# Altium footprint library 野火_EBF6ULL S1 Mini 底板_V1.0_PCB封装_AD格式.PcbLib: 29 footprints (part 1 of 2)
Each footprint in its own frame and in the unit in brackets; x right, y up, seen from the top. Pads: shape width x height; smd on the part's side, far side on the other; paste and mask are expansions set on the pad; w line width, h text height; cw(c..) or ccw(c..) is an arc to the next point about the centre after c.
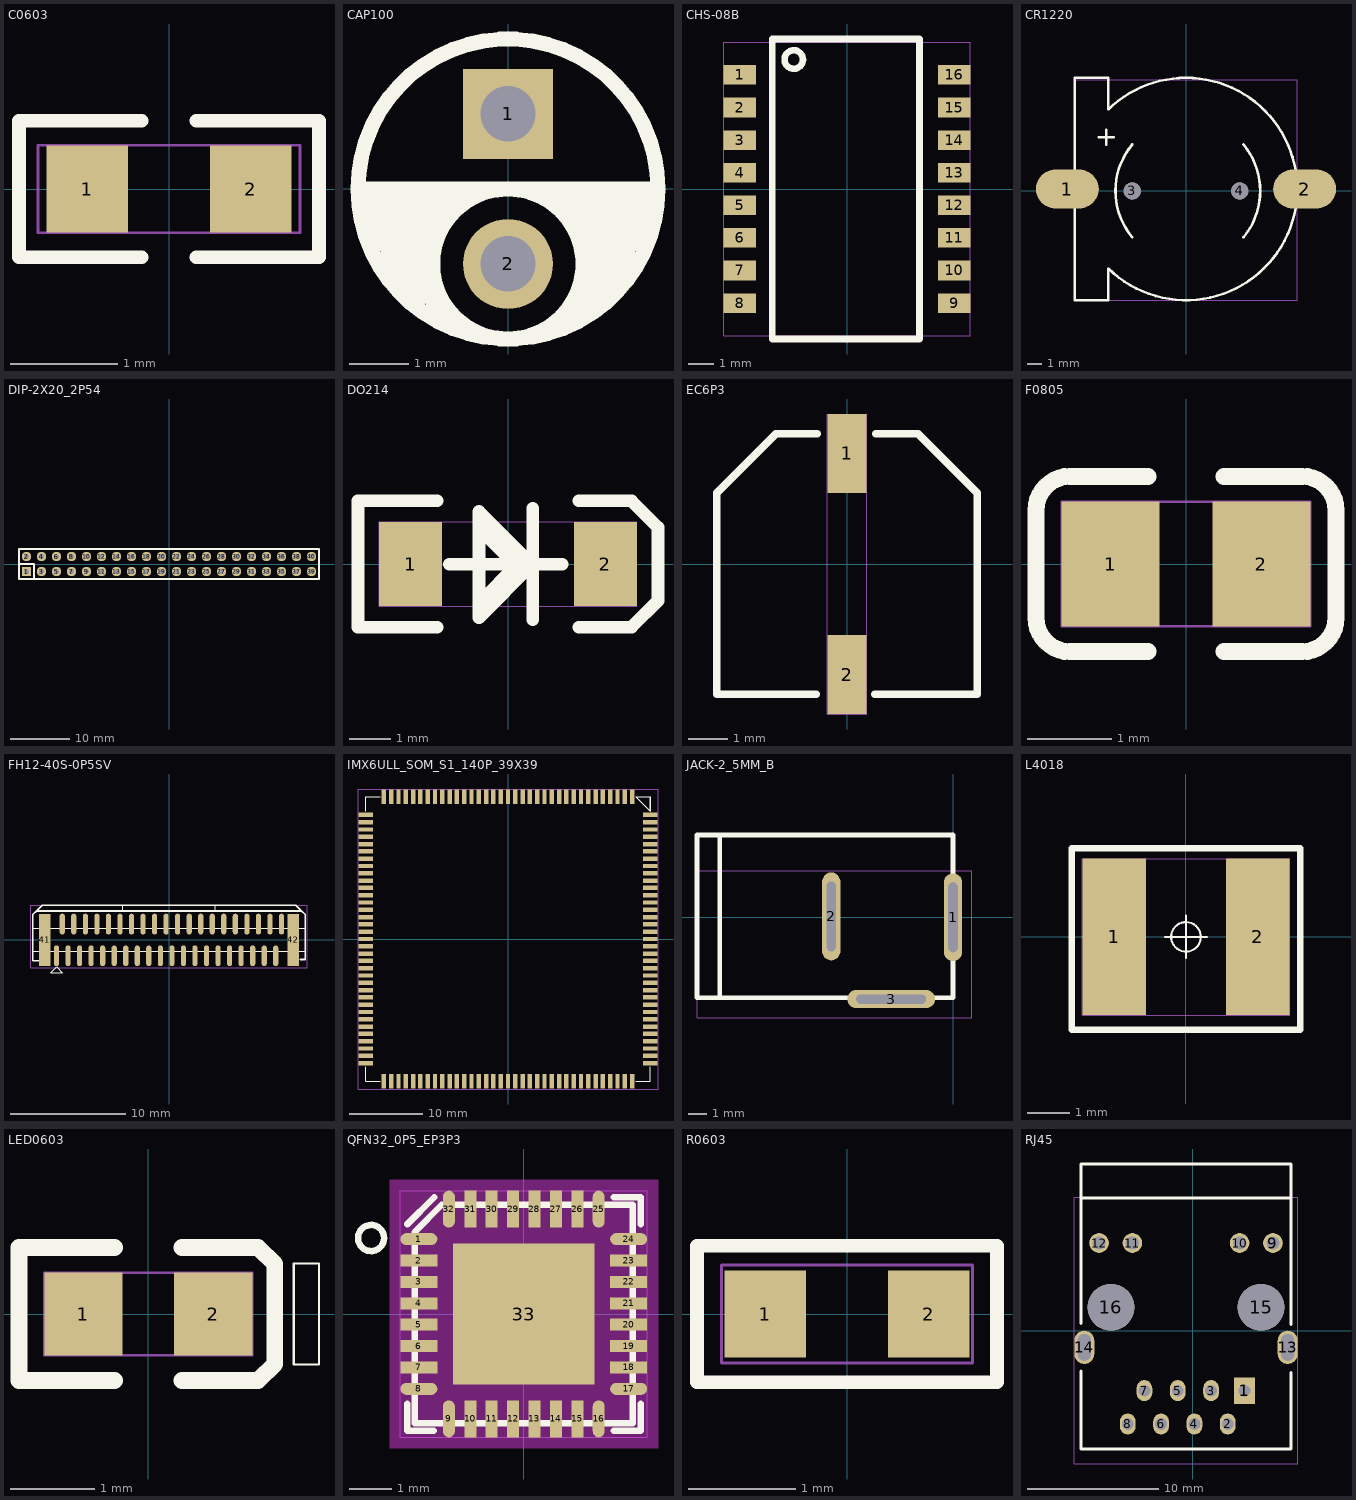
[diagram p0: the footprints below, top view; thin cyan lines are the x and y axes]

## C0603 [mil]
pads (2):
  rect 30x32 smd mask+2.5: 1(-30,0) 2(30,0)
Top Overlay:
  lines w5: -10,-25 -55,-25 -55,25 -10,25 ; 10,-25 55,-25 55,25 10,25
Top Assembly:
  text "C9" at 40.35,25 h50
Mechanical 16:
  lines w1: -48,-16 48,-16 48,16 -48,16 -48,-16

## CAP100 [mil]
pads (2):
  rect 60x60 hole 37 mask+2: 1(0,50)
  round 60 hole 37 mask+2: 2(0,-50)
Top Overlay:
  circle w10: c0,0 r100
  lines w10: -100,0 100,0 ; -90,-40 -90,0 ; -80,-60 -80,-5 ; -70,-70 -70,-5 ; -60,-75 -60,-5 ; -50,-85 -50,0 ; -45,-85 -45,-80 ; -40,-20 -40,0 ; -30,-10 -30,0 ; 35,-10 35,-5 ; 40,-20 40,-5 ; 45,-85 45,-80 ; 50,-85 50,-5 ; 60,-80 60,-5 ; 70,-70 70,-5 ; 80,-60 80,-5 ; 90,-40 90,-5 ; 0,-100 ccw(c0,-50) 0,0 ccw(c-0.26,-50) 0,-100
Top Assembly:
  text "C56" at -62.61,-25 h50
Mechanical 16:
  circle w1: c0,0 r100

## CHS-08B [mm]
pads (16):
  rect 1.27x0.762 smd mask+0.064: 1(-4.175,4.445) 2(-4.175,3.175) 3(-4.175,1.905) 4(-4.175,0.635) 5(-4.175,-0.635) 6(-4.175,-1.905) 7(-4.175,-3.175) 8(-4.175,-4.445) 9(4.175,-4.445) 10(4.175,-3.175) 11(4.175,-1.905) 12(4.175,-0.635) 13(4.175,0.635) 14(4.175,1.905) 15(4.175,3.175) 16(4.175,4.445)
Top Overlay:
  circle w0.254: c-2.075,5.045 r0.36
  lines w0.254: -2.905,-5.845 -2.905,5.845 2.825,5.845 2.825,-5.845 -2.905,-5.845
Top Assembly:
  text "SW5" at 1.72,0.635 h1.27
Mechanical 16:
  lines w0.025: -4.81,-5.715 -4.81,5.715 4.81,5.715 4.81,-5.715 -4.81,-5.715

## CR1220 [mil]
pads (4):
  oval 169.29x106.3 smd mask+1.97: 1(-320,5) 2(320,5)
  round 46 hole 46 unplated mask+2: 3(-145,0) 4(145,0)
Top Overlay:
  lines w7: -235,145 -195,145 ; -215,125 -215,165 ; -209.62,-209.61 -210,-295 -300,-295 -300,5 -300,305 -210,305 -209.62,219.61 ; -209.52,-209.7 ccw(c0,5) 298.19,-27.92 ; -209.51,219.71 cw(c0,5.02) 0,305 cw(c0,5) 298.19,37.92 ; -145.23,-124.72 cw(c5,0) -145.01,124.99 ; 155.01,-124.99 ccw(c5,0) 155.01,124.99
Top Assembly:
  text "CN1" at 54.39,25 h50
Mechanical 16:
  lines w1: -300,-295 -300,300 300,300 300,-295 -300,-295

## DIP-2X20_2P54 [mm]
pads (40):
  rect 1.6x1.6 hole 0.9 mask+0.051: 1(-24.13,-1.27)
  round 1.6 hole 0.9 mask+0.051: 2(-24.13,1.27) 3(-21.59,-1.27) 4(-21.59,1.27) 5(-19.05,-1.27) 6(-19.05,1.27) 7(-16.51,-1.27) 8(-16.51,1.27) 9(-13.97,-1.27) 10(-13.97,1.27) 11(-11.43,-1.27) 12(-11.43,1.27) 13(-8.89,-1.27) 14(-8.89,1.27) 15(-6.35,-1.27) 16(-6.35,1.27) 17(-3.81,-1.27) 18(-3.81,1.27) 19(-1.27,-1.27) 20(-1.27,1.27) 21(1.27,-1.27) 22(1.27,1.27) 23(3.81,-1.27) 24(3.81,1.27) 25(6.35,-1.27) 26(6.35,1.27) 27(8.89,-1.27) 28(8.89,1.27) 29(11.43,-1.27) 30(11.43,1.27) 31(13.97,-1.27) 32(13.97,1.27) 33(16.51,-1.27) 34(16.51,1.27) 35(19.05,-1.27) 36(19.05,1.27) 37(21.59,-1.27) 38(21.59,1.27) 39(24.13,-1.27) 40(24.13,1.27)
Top Overlay:
  lines w0.305: -25.4,0 -22.86,0 -22.86,-2.54 ; -25.4,-2.54 25.4,-2.54 25.4,2.54 -25.4,2.54 -25.4,-2.54
Top Assembly:
  text "CN4" at -1.684,-0.635 h1.27
Mechanical 16:
  lines w0.025: -25.4,-2.54 25.4,-2.54 25.4,2.54 -25.4,2.54 -25.4,-2.54

## DO214 [mil]
pads (2):
  rect 60x80 smd mask+2: 1(-92.5,0) 2(92.5,0)
Top Overlay:
  lines w1: -27.58,-25.06 -27.58,22.87 -1.5,22.87 -1.5,-25.06 -27.58,-25.06
  lines w12: -67.5,-60 -142.5,-60 -142.5,60 -67.5,60 ; -55.58,-0.13 51.42,-0.13 ; -27.58,33.87 7.79,-1.51 -25.84,-35.13 ; 23.42,-53.13 23.42,52.87 ; 67.5,-60 117.42,-60 142.5,-34.92 142.5,34.87 117.37,60 67.5,60 ; -27.58,-51.13 -27.58,49.87 23.42,-1.13 23.42,-0.13 -27.58,-51.13
Top Assembly:
  text "D1" at -28.21,-25 h50
Mechanical 16:
  lines w1: -122.5,-40 122.5,-40 122.5,40 -122.5,40 -122.5,-40

## EC6P3 [mm]
pads (2):
  rect 1x2 smd mask+0.051: 1(0,2.8) 2(0,-2.8)
Top Overlay:
  lines w0.2: -0.787,-3.3 -3.3,-3.3 -3.3,1.8 -1.8,3.3 -0.762,3.3 ; 0.711,-3.3 3.3,-3.3 3.3,1.8 1.8,3.3 0.737,3.3
Top Assembly:
  text "C1" at -0.783,-0.635 h1.27
Mechanical 16:
  lines w0.025: -0.5,-3.8 0.5,-3.8 0.5,3.8 -0.5,3.8 -0.5,-3.8

## F0805 [mm]
pads (2):
  rect 1.16x1.47 smd mask+0.051: 1(-0.89,0) 2(0.89,0)
Top Overlay:
  lines w0.2: -0.45,-1.035 -1.37,-1.035 cw(c-1.37,-0.635) -1.77,-0.635 -1.77,0.635 cw(c-1.37,0.635) -1.37,1.035 -0.45,1.035 ; 0.45,-1.035 1.37,-1.035 ccw(c1.37,-0.635) 1.77,-0.635 1.77,0.635 ccw(c1.37,0.635) 1.37,1.035 0.45,1.035
Top Assembly:
  text "F1" at 0.617,0.635 h1.27
Mechanical 16:
  lines w0.025: -1.47,-0.735 1.47,-0.735 1.47,0.735 -1.47,0.735 -1.47,-0.735

## FH12-40S-0P5SV [mm]
pads (42):
  oval 0.45x1.8 smd mask+0.05: 1(-9.75,-1.375) 2(-9.25,1.375) 3(-8.75,-1.375) 4(-8.25,1.375) 5(-7.75,-1.375) 6(-7.25,1.375) 7(-6.75,-1.375) 8(-6.25,1.375) 9(-5.75,-1.375) 10(-5.25,1.375) 11(-4.75,-1.375) 12(-4.25,1.375) 13(-3.75,-1.375) 14(-3.25,1.375) 15(-2.75,-1.375) 16(-2.25,1.375) 17(-1.75,-1.375) 18(-1.25,1.375) 19(-0.75,-1.375) 20(-0.25,1.375) 21(0.25,-1.375) 22(0.75,1.375) 23(1.25,-1.375) 24(1.75,1.375) 25(2.25,-1.375) 26(2.75,1.375) 27(3.25,-1.375) 28(3.75,1.375) 29(4.25,-1.375) 30(4.75,1.375) 31(5.25,-1.375) 32(5.75,1.375) 33(6.25,-1.375) 34(6.75,1.375) 35(7.25,-1.375) 36(7.75,1.375) 37(8.25,-1.375) 38(8.75,1.375) 39(9.25,-1.375) 40(9.75,1.375)
  rect 1x4.5 smd mask+0.05: 41(-10.75,0) 42(10.75,0)
Top Overlay:
  lines w0.025: -11.8,-1 -11.8,1 11.8,1 11.8,-1 -11.8,-1 ; -10.254,-2.84 -9.746,-2.332 -9.238,-2.84 -10.254,-2.84 ; -4,2.5 4,2.5 4,3 -4,3 -4,2.5
  lines w0.152: -11.3,-1.8 -11.8,-1.8 -11.8,2.2 -11.5,2.5 ; 11.4,-1.7 11.8,-1.7 11.8,2.2 11.5,2.5 ; -11.5,2.5 -11,3 11,3 11.5,2.5 ; -11.5,2.5 11.5,2.5
Top Assembly:
  text "J13" at -1.354,-0.635 h1.27
Mechanical 16:
  lines w0.025: -12,-2.4 -12,3 12,3 12,-2.4 -12,-2.4

## IMX6ULL_SOM_S1_140P_39X39 [mm]
pads (140):
  rect 0.6x2 smd mask+0.05: 1(17,19.5) 2(16,19.5) 3(15,19.5) 4(14,19.5) 5(13,19.5) 6(12,19.5) 7(11,19.5) 8(10,19.5) 9(9,19.5) 10(8,19.5) 11(7,19.5) 12(6,19.5) 13(5,19.5) 14(4,19.5) 15(3,19.5) 16(2,19.5) 17(1,19.5) 18(0,19.5) 19(-1,19.5) 20(-2,19.5) 21(-3,19.5) 22(-4,19.5) 23(-5,19.5) 24(-6,19.5) 25(-7,19.5) 26(-8,19.5) 27(-9,19.5) 28(-10,19.5) 29(-11,19.5) 30(-12,19.5) 31(-13,19.5) 32(-14,19.5) 33(-15,19.5) 34(-16,19.5) 35(-17,19.5) 71(-17,-19.5) 72(-16,-19.5) 73(-15,-19.5) 74(-14,-19.5) 75(-13,-19.5) 76(-12,-19.5) 77(-11,-19.5) 78(-10,-19.5) 79(-9,-19.5) 80(-8,-19.5) 81(-7,-19.5) 82(-6,-19.5) 83(-5,-19.5) 84(-4,-19.5) 85(-3,-19.5) 86(-2,-19.5) 87(-1,-19.5) 88(0,-19.5) 89(1,-19.5) 90(2,-19.5) 91(3,-19.5) 92(4,-19.5) 93(5,-19.5) 94(6,-19.5) 95(7,-19.5) 96(8,-19.5) 97(9,-19.5) 98(10,-19.5) 99(11,-19.5) 100(12,-19.5) 101(13,-19.5) 102(14,-19.5) 103(15,-19.5) 104(16,-19.5) 105(17,-19.5)
  rect 2x0.6 smd mask+0.05: 36(-19.5,17) 37(-19.5,16) 38(-19.5,15) 39(-19.5,14) 40(-19.5,13) 41(-19.5,12) 42(-19.5,11) 43(-19.5,10) 44(-19.5,9) 45(-19.5,8) 46(-19.5,7) 47(-19.5,6) 48(-19.5,5) 49(-19.5,4) 50(-19.5,3) 51(-19.5,2) 52(-19.5,1) 53(-19.5,0) 54(-19.5,-1) 55(-19.5,-2) 56(-19.5,-3) 57(-19.5,-4) 58(-19.5,-5) 59(-19.5,-6) 60(-19.5,-7) 61(-19.5,-8) 62(-19.5,-9) 63(-19.5,-10) 64(-19.5,-11) 65(-19.5,-12) 66(-19.5,-13) 67(-19.5,-14) 68(-19.5,-15) 69(-19.5,-16) 70(-19.5,-17) 106(19.5,-17) 107(19.5,-16) 108(19.5,-15) 109(19.5,-14) 110(19.5,-13) 111(19.5,-12) 112(19.5,-11) 113(19.5,-10) 114(19.5,-9) 115(19.5,-8) 116(19.5,-7) 117(19.5,-6) 118(19.5,-5) 119(19.5,-4) 120(19.5,-3) 121(19.5,-2) 122(19.5,-1) 123(19.5,0) 124(19.5,1) 125(19.5,2) 126(19.5,3) 127(19.5,4) 128(19.5,5) 129(19.5,6) 130(19.5,7) 131(19.5,8) 132(19.5,9) 133(19.5,10) 134(19.5,11) 135(19.5,12) 136(19.5,13) 137(19.5,14) 138(19.5,15) 139(19.5,16) 140(19.5,17)
Top Overlay:
  lines w0.025: 17.495,19.499 19.5,19.5 19.501,17.495 17.495,19.499
  lines w0.152: -19.5,-19.5 -17.5,-19.5 -19.5,-19.5 ; -19.5,-19.5 -19.5,-17.5 -19.5,-19.5 ; -19.5,19.5 -19.5,17.5 -19.5,19.5 ; -19.5,19.5 -17.5,19.5 -19.5,19.5 ; 19.5,-19.5 17.5,-19.5 19.5,-19.5 ; 19.5,-19.5 19.5,-17.5 19.5,-19.5 ; 19.5,19.5 19.5,17.5 19.5,19.5 ; 19.5,19.5 17.5,19.5 19.5,19.5
Top Assembly:
  text "J1" at -0.617,-0.635 h1.27
Mechanical 16:
  lines w0.025: -20.55,-20.55 20.55,-20.55 20.55,20.55 -20.55,20.55 -20.55,-20.55

## JACK-2_5MM_B [mm]
pads (3):
  oval 1x4.81 / inner oval 1x4.81 / far side oval 2x4.81 hole 0.5 slot 3.81 at 90 deg mask+0.05: 1(0,0) 2(-6.659,0.046)
  oval 4.81x1 / inner oval 4.81x1 / far side oval 4.81x2 hole 0.5 slot 3.81 at 0 deg mask+0.05: 3(-3.383,-4.476)
Top Overlay:
  lines w0.254: -12.755,-4.349 -12.755,4.501 ; -14,-4.399 -14,4.501 0,4.501 0,-4.399 -14,-4.399
Top Assembly:
  text "JACK1" at 2.446,0.635 h1.27
Mechanical 16:
  lines w0.025: -14,-5.492 1.016,-5.492 1.016,2.535 -14,2.535 -14,-5.492

## L4018 [mm]
pads (2):
  rect 1.5x3.7 smd mask+0.05: 1(-1.7,0) 2(1.7,0)
Top Overlay:
  circle w0.05: c0,0 r0.35
  lines w0.05: -0.5,0 0.5,0 ; 0,-0.5 0,0.5
  lines w0.152: -2.7,-2.2 -2.7,2.1 2.7,2.1 2.7,-2.2 -2.7,-2.2
Top Assembly:
  text "L1" at -0.583,-0.635 h1.27
Mechanical 16:
  lines w0.025: -2.45,-1.85 2.45,-1.85 2.45,1.85 -2.45,1.85 -2.45,-1.85

## LED0603 [mm]
pads (2):
  rect 0.93x0.98 smd mask+0.05: 1(-0.77,0) 2(0.77,0)
Top Overlay:
  lines w0.025: 1.725,-0.6 1.725,0.6 2.025,0.6 2.025,-0.6 1.725,-0.6
  lines w0.2: -0.4,-0.79 -1.535,-0.79 -1.535,0.79 -0.4,0.79 ; 0.4,-0.79 1.3,-0.79 1.5,-0.597 1.5,0.597 1.3,0.79 0.4,0.79
Top Assembly:
  text "D7" at 0.989,0.635 h1.27
Mechanical 16:
  lines w0.025: -1.235,-0.49 1.235,-0.49 1.235,0.49 -1.235,0.49 -1.235,-0.49

## QFN32_0P5_EP3P3 [mil]
pads (33):
  oval 34x11 smd mask+2: 1(-96.46,68.9) 8(-96.46,-68.9) 17(96.46,-68.9) 24(96.46,68.9)
  rect 34x11 smd mask+2: 2(-96.46,49.21) 3(-96.46,29.53) 4(-96.46,9.84) 5(-96.46,-9.84) 6(-96.46,-29.53) 7(-96.46,-49.21) 18(96.46,-49.21) 19(96.46,-29.53) 20(96.46,-9.84) 21(96.46,9.84) 22(96.46,29.53) 23(96.46,49.21)
  oval 11x34 smd mask+2: 9(-68.9,-96.46) 16(68.9,-96.46) 25(68.9,96.46) 32(-68.9,96.46)
  rect 11x34 smd mask+2: 10(-49.21,-96.46) 11(-29.53,-96.46) 12(-9.84,-96.46) 13(9.84,-96.46) 14(29.53,-96.46) 15(49.21,-96.46) 26(49.21,96.46) 27(29.53,96.46) 28(9.84,96.46) 29(-9.84,96.46) 30(-29.53,96.46) 31(-49.21,96.46)
  rect 130x130 smd mask+2: 33(0,0)
Top Layer keep-out:
  region: -123.46,-123.46 -123.46,123.46 123.46,123.46 123.46,-123.46
Top Overlay:
  circle w5.98: c-140.48,69.89 r12.02
  lines w6: -107.39,-82.68 -107.39,-107.39 -82.68,-107.39 ; -107.39,82.39 -82.39,107.39 ; 82.68,-107.39 107.39,-107.39 107.39,-82.68 ; 82.68,107.39 107.39,107.39 107.39,82.68 ; -100.39,-100.39 -100.39,75.39 -75.39,100.39 100.39,100.39 100.39,-100.39 -100.39,-100.39
Top Paste:
  lines w1: -59.06,-59.06 -59.06,-5.91 -5.91,-5.91 -5.91,-59.06 -59.06,-59.06 ; -59.06,5.91 -5.91,5.91 -5.91,59.06 -59.06,59.06 -59.06,5.91 ; 5.91,-59.06 59.06,-59.06 59.06,-5.91 5.91,-5.91 5.91,-59.06 ; 5.91,5.91 59.06,5.91 59.06,59.06 5.91,59.06 5.91,5.91
Top Assembly:
  text "U11" at -47.85,-25 h50
Mechanical 16:
  lines w1: -113.46,-113.46 113.46,-113.46 113.46,113.46 -113.46,113.46 -113.46,-113.46

## R0603 [mil]
pads (2):
  rect 30x32 smd mask+2.5: 1(-30,0) 2(30,0)
Top Overlay:
  lines w5: -55,-25 -55,25 55,25 55,-25 -55,-25
Top Assembly:
  text "R99" at -59.99,-25 h50
Mechanical 16:
  lines w1: -46,-18 -46,18 46,18 46,-18 -46,-18

## RJ45 [mil]
pads (16):
  rect 62.99x78.74 / inner oval 62.99x78.74 / far side rect 62.99x78.74 hole 35.43 mask+1.97: 1(155.2,-180)
  oval 47.24x62.99 hole 35.43 mask+1.97: 2(105.2,-280) 3(55.2,-180) 4(5.2,-280) 5(-44.8,-180) 6(-94.8,-280) 7(-144.8,-180) 8(-194.8,-280)
  round 59.06 hole 40.16 mask+2.5: 9(240.83,262.91) 10(140.83,262.91) 11(-180.83,262.91) 12(-280.83,262.91)
  oval 60x100 hole 40 slot 80 at 90 deg mask+2.5: 13(285.12,-50.08) 14(-325.12,-50.08)
  round 140 hole 140 unplated mask+2.5: 15(205,70) 16(-245,70)
Top Overlay:
  lines w7.87: -334.96,397.76 294.96,397.76
  lines w10: -334.96,-120.83 -334.96,-355 294.96,-355 294.96,-125.98 ; -334.96,22.64 -334.96,499.92 294.96,499.92 294.96,18.94
Top Assembly:
  text "J12" at 53.32,25 h50
Mechanical 16:
  lines w1: -355.12,-400 -355.12,400 315.12,400 315.12,-400 -355.12,-400